# Altium footprint library TF15X15.PcbLib: 1 footprints
Each footprint in its own frame and in the unit in brackets; x right, y up, seen from the top. Pads: shape width x height; smd on the part's side, far side on the other; paste and mask are expansions set on the pad; w line width, h text height; cw(c..) or ccw(c..) is an arc to the next point about the centre after c.
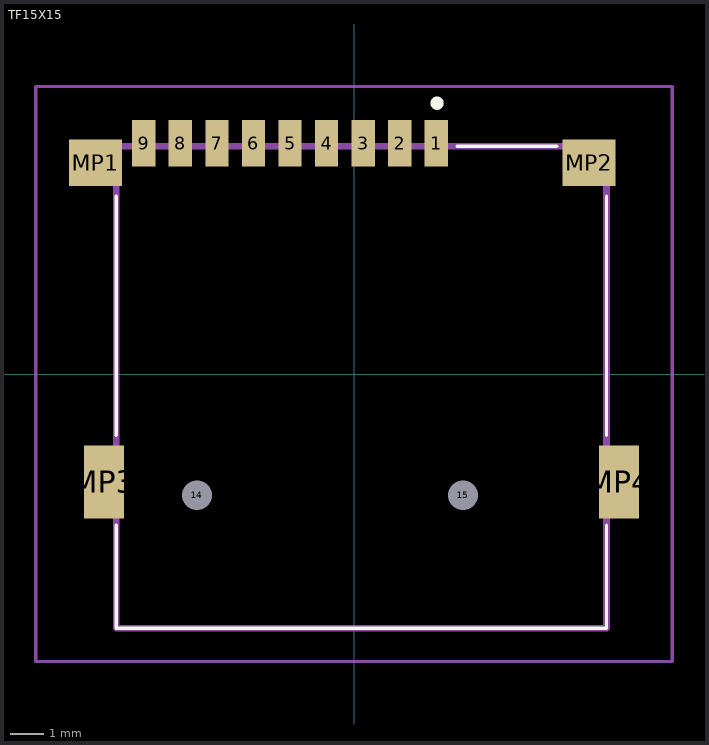
[diagram p0: the footprint, top view; thin cyan lines are the x and y axes]

## TF15X15 [mm]
pads (15):
  rect 0.7x1.4 smd: 1(2.475,6.95) 2(1.375,6.95) 3(0.275,6.95) 4(-0.825,6.95) 5(-1.925,6.95) 6(-3.025,6.95) 7(-4.125,6.95) 8(-5.225,6.95) 9(-6.325,6.95)
  round 0.45 hole 0.9 unplated: 14(-4.725,-3.65) 15(3.275,-3.65)
  rect 1.6x1.4 smd: MP1(-7.775,6.35) MP2(7.075,6.35)
  rect 1.2x2.2 smd: MP3(-7.525,-3.25) MP4(7.975,-3.25)
Top Overlay:
  lines w0.1: -7.15,-4.55 -7.15,-7.65 7.6,-7.65 7.6,-4.55 ; -7.15,-1.85 -7.15,5.35 ; 3.1,6.85 6.1,6.85 ; 7.6,-1.85 7.6,5.35
  lines w0.2: 2.4,8.15 2.4,8.15 ; 2.4,8.15 ccw(c2.5,8.15) 2.6,8.15 ; 2.4,8.15 cw(c2.5,8.15) 2.6,8.15 ; 2.6,8.15 2.6,8.15
Mechanical 15:
  lines w0.2: -7.15,-7.65 7.6,-7.65 7.6,6.85 -7.15,6.85 -7.15,-7.65
Mechanical 20:
  lines w0.1: -9.575,-8.65 9.575,-8.65 9.575,8.65 -9.575,8.65 -9.575,-8.65